# Altium schematic symbol library shields.SchLib: 1 symbol
Pins are listed as number, name and electrical type; pins without a type are passive.

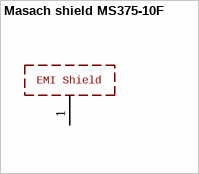
[diagram p0: symbol Masach shield MS375-10F]

## Masach shield MS375-10F
designator SH?, comment MS375-10F  (value not drawn)
footprint MS375-10F (Masach MS375-10F 37.5 x 29.3 x 6.5mm Two-piece Drawn-Seamless RF Shield/EMI Shield FRAME (CRS))
pins: 1
text: EMI Shield